# EAGLE library part SPARKFUN-IC-COMMS_FT231X (library pendulum_control_board)
FTDI FT231X Full Speed USB to Full-handshake UART This USB2.0 Full Speed IC offers a compact bridge to full handshake UART interfaces. The device is a UART, capable of operating up to 3MBaud, with low power consumption (8mA). The FT231X includes the complete FT-X series feature set and enables USB to be added into a system design quickly and easily over a UART interface. Datasheet <http://cdn.sparkfun.com/datasheets/Components/General%20IC/DS_FT231X.pdf> SparkFun Products SparkFun RedBoard - Programmed with Arduino <https://www.sparkfun.com/products/12757> (DEV-12757) SparkFun XBee Explorer USB <https://www.sparkfun.com/products/11812> (WRL-11812) SparkFun XBee Explorer Dongle <https://www.sparkfun.com/products/11697> (WRL-11697) SparkFun Blynk Board - ESP8266 <https://www.sparkfun.com/products/13794> (WRL-13794) SparkFun ESP8266 Thing - Dev Board <https://www.sparkfun.com/products/13711> (WRL-13711) SparkFun Block for Intel® Edison - Base <https://www.sparkfun.com/products/13045> (DEV-13045) SparkFun RedStick <https://www.sparkfun.com/products/13741> (DEV-13741) SparkFun Beefy 3 - FTDI Basic Breakout <https://www.sparkfun.com/products/13746> (DEV-13746) SparkFun FT231X Breakout <https://www.sparkfun.com/products/11736> (BOB-11736)
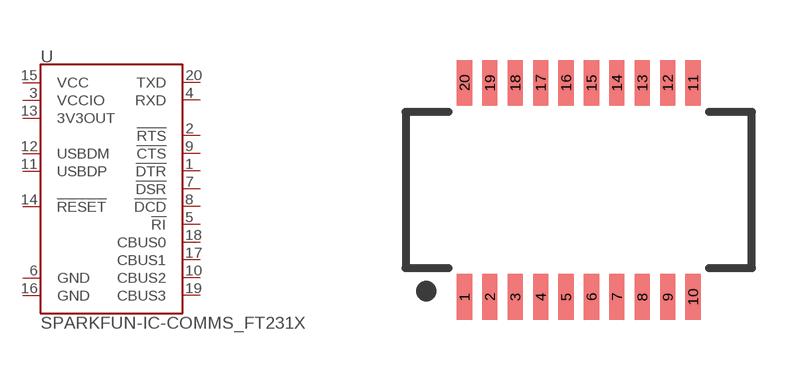
[diagram p8: symbol with the pads of SPARKFUN-IC-COMMS_SSOP20_L; footprint SPARKFUN-IC-COMMS_SSOP20_L]

Designator prefix U

## SPARKFUN-IC-COMMS_FT231XS (PROD_ID: IC-11524; VALUE: FT231XS)  [SPARKFUN-IC-COMMS_SSOP20_L]
1  !DTR
2  !RTS
3  VCCIO
4  RXD
5  !RI
6  GND
7  !DSR
8  !DCD
9  !CTS
10  CBUS2
11  USBDP
12  USBDM
13  3V3OUT
14  !RESET
15  VCC
16  GND
17  CBUS1
18  CBUS0
19  CBUS3
20  TXD

## Footprint SPARKFUN-IC-COMMS_SSOP20_L (pad centres in mm)
SSOP-20 -Long Version Specifications: Pin count:20 Example device(s): FT231X
smd 0.381 x 1.143: 1 -2.858,-2.68; 2 -2.223,-2.68; 3 -1.588,-2.68; 4 -0.953,-2.68; 5 -0.318,-2.68; 6 0.317,-2.68; 7 0.952,-2.68; 8 1.587,-2.68; 9 2.222,-2.68; 10 2.857,-2.68; 11 2.857,2.68; 12 2.222,2.68; 13 1.587,2.68; 14 0.952,2.68; 15 0.317,2.68; 16 -0.318,2.68; 17 -0.953,2.68; 18 -1.588,2.68; 19 -2.223,2.68; 20 -2.858,2.68